# Altium footprint library 142-0781-821.PcbLib: 1 footprints
Each footprint in its own frame and in the unit in brackets; x right, y up, seen from the top. Pads: shape width x height; smd on the part's side, far side on the other; paste and mask are expansions set on the pad; w line width, h text height; cw(c..) or ccw(c..) is an arc to the next point about the centre after c.
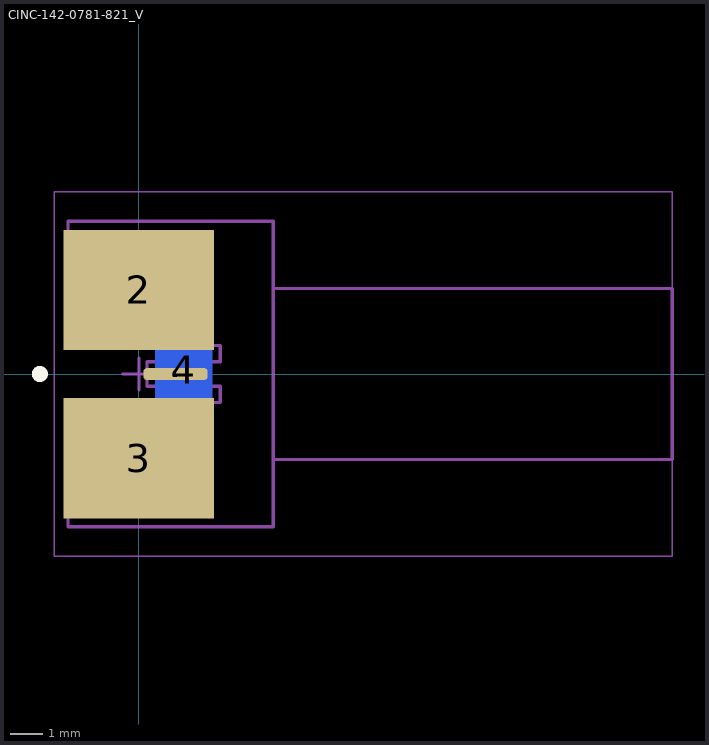
[diagram p0: the footprint, top view; thin cyan lines are the x and y axes]

## CINC-142-0781-821_V [mm] "High Frequency End Launch, SMA Bulkhead Jack Assembly, Edge Mount"
height 4.343
pads (4):
  rrect50% 2x0.363 smd paste-10: 1(1.143,0)
  rect 4.7x3.75 smd paste-10: 2(0,2.625) 3(0,-2.625)
  rect 1.778x7.62 smd far side paste-10 mask+0.102: 4(1.397,0.127)
Top Overlay:
  circle w0.25: c-3.09,0 r0.125
Mechanical 13:
  lines w0.1: 4.191,-2.67 16.637,-2.67 16.637,2.67 4.191,2.67 ; -2.21,-4.763 4.191,-4.763 4.191,4.763 -2.21,4.763 -2.21,0.889 2.54,0.889 2.54,0.381 0.254,0.381 0.254,-0.381 2.54,-0.381 2.54,-0.889 -2.21,-0.889 -2.21,-4.763
Mechanical 15:
  lines w0.05: -2.64,-5.688 16.637,-5.688 16.637,5.688 -2.64,5.688 -2.64,-5.688
  lines w0.1: -0.5,0 0.5,0 ; 0,-0.5 0,0.5
3D body "142-0781-821.stp": height 4.16, standoff -3.76, extent -2.27,-3.962 16.637,3.962